# Altium schematic symbol library TFM-115-02-L-D-A.SchLib: 1 symbol
Pins are listed as number, name and electrical type; pins without a type are passive.

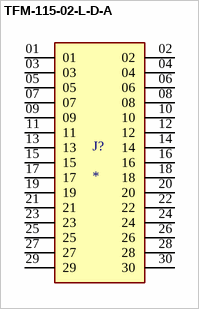
[diagram p0: symbol TFM-115-02-L-D-A]

## TFM-115-02-L-D-A
designator J?
MF: Samtec; MP: TFM-115-02-L-D-A; Availability: Unavailable; Price: None; Package: None; Value: *
footprint SAMTEC_TFM-115-02-L-D-A
pins: 01, 02, 03, 04, 05, 06, 07, 08, 09, 10, 11, 12, 13, 14, 15, 16, 17, 18, 19, 20, 21, 22, 23, 24, 25, 26, 27, 28, 29, 30